# EAGLE library part ICE40HX1KVQ100 (library rpi64)
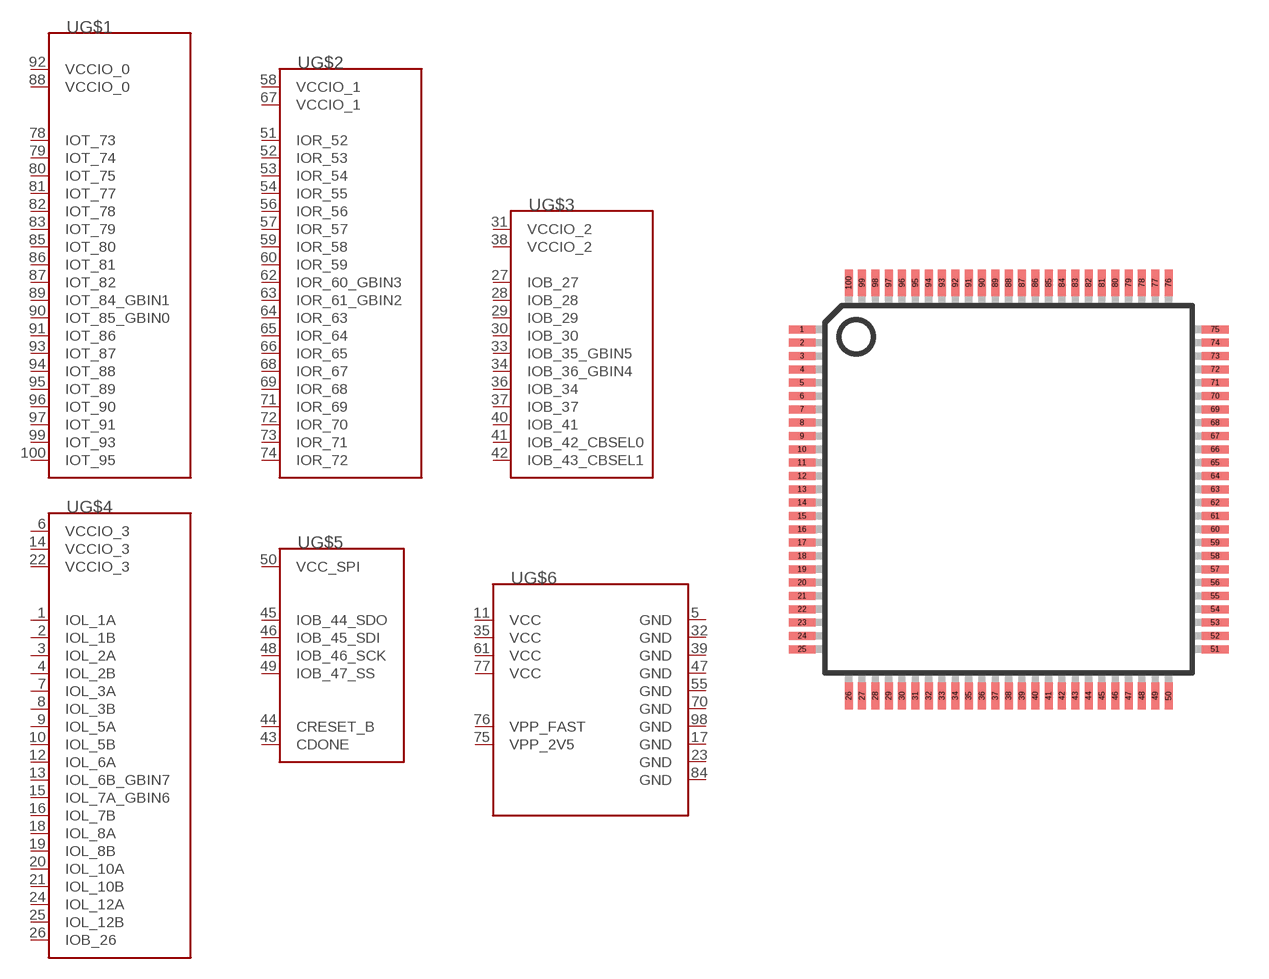
[diagram p4: symbol with the pads of VQ100; footprint VQ100]

Designator prefix -; gates G$1=ICE40HX1K_BANK0 G$2=ICE40HX1K_BANK1 G$3=ICE40HX1K_BANK2 G$4=ICE40HX1K_BANK3 G$5=ICE40HX1K_CONF G$6=ICE40HX1K_POWER

## ICE40HX1KVQ100  [VQ100]
1  G$4:IOL_1A
2  G$4:IOL_1B
3  G$4:IOL_2A
4  G$4:IOL_2B
5  G$6:GND  pwr
6  G$4:VCCIO_3  pwr
7  G$4:IOL_3A
8  G$4:IOL_3B
9  G$4:IOL_5A
10  G$4:IOL_5B
11  G$6:VCC  pwr
12  G$4:IOL_6A
13  G$4:IOL_6B_GBIN7
14  G$4:VCCIO_3  pwr
15  G$4:IOL_7A_GBIN6
16  G$4:IOL_7B
17  G$6:GND  pwr
18  G$4:IOL_8A
19  G$4:IOL_8B
20  G$4:IOL_10A
21  G$4:IOL_10B
22  G$4:VCCIO_3  pwr
23  G$6:GND  pwr
24  G$4:IOL_12A
25  G$4:IOL_12B
26  G$4:IOB_26
27  G$3:IOB_27
28  G$3:IOB_28
29  G$3:IOB_29
30  G$3:IOB_30
31  G$3:VCCIO_2  pwr
32  G$6:GND  pwr
33  G$3:IOB_35_GBIN5
34  G$3:IOB_36_GBIN4
35  G$6:VCC  pwr
36  G$3:IOB_34
37  G$3:IOB_37
38  G$3:VCCIO_2  pwr
39  G$6:GND  pwr
40  G$3:IOB_41
41  G$3:IOB_42_CBSEL0
42  G$3:IOB_43_CBSEL1
43  G$5:CDONE
44  G$5:CRESET_B
45  G$5:IOB_44_SDO
46  G$5:IOB_45_SDI
47  G$6:GND  pwr
48  G$5:IOB_46_SCK
49  G$5:IOB_47_SS
50  G$5:VCC_SPI  pwr
51  G$2:IOR_52
52  G$2:IOR_53
53  G$2:IOR_54
54  G$2:IOR_55
55  G$6:GND  pwr
56  G$2:IOR_56
57  G$2:IOR_57
58  G$2:VCCIO_1  pwr
59  G$2:IOR_58
60  G$2:IOR_59
61  G$6:VCC  pwr
62  G$2:IOR_60_GBIN3
63  G$2:IOR_61_GBIN2
64  G$2:IOR_63
65  G$2:IOR_64
66  G$2:IOR_65
67  G$2:VCCIO_1  pwr
68  G$2:IOR_67
69  G$2:IOR_68
70  G$6:GND  pwr
71  G$2:IOR_69
72  G$2:IOR_70
73  G$2:IOR_71
74  G$2:IOR_72
75  G$6:VPP_2V5  pwr
76  G$6:VPP_FAST  pwr
77  G$6:VCC  pwr
78  G$1:IOT_73
79  G$1:IOT_74
80  G$1:IOT_75
81  G$1:IOT_77
82  G$1:IOT_78
83  G$1:IOT_79
84  G$6:GND  pwr
85  G$1:IOT_80
86  G$1:IOT_81
87  G$1:IOT_82
88  G$1:VCCIO_0  pwr
89  G$1:IOT_84_GBIN1
90  G$1:IOT_85_GBIN0
91  G$1:IOT_86
92  G$1:VCCIO_0  pwr
93  G$1:IOT_87
94  G$1:IOT_88
95  G$1:IOT_89
96  G$1:IOT_90
97  G$1:IOT_91
98  G$6:GND  pwr
99  G$1:IOT_93
100  G$1:IOT_95

## Footprint VQ100 (pad centres in mm)
smd 1 x 0.3: 1 -7.75,6; 2 -7.75,5.5; 3 -7.75,5; 4 -7.75,4.5; 5 -7.75,4; 6 -7.75,3.5; 7 -7.75,3; 8 -7.75,2.5; 9 -7.75,2; 10 -7.75,1.5; 11 -7.75,1; 12 -7.75,0.5; 13 -7.75,0; 14 -7.75,-0.5; 15 -7.75,-1; 16 -7.75,-1.5; 17 -7.75,-2; 18 -7.75,-2.5; 19 -7.75,-3; 20 -7.75,-3.5; 21 -7.75,-4; 22 -7.75,-4.5; 23 -7.75,-5; 24 -7.75,-5.5; 25 -7.75,-6; 51 7.75,-6; 52 7.75,-5.5; 53 7.75,-5; 54 7.75,-4.5; 55 7.75,-4; 56 7.75,-3.5; 57 7.75,-3; 58 7.75,-2.5; 59 7.75,-2; 60 7.75,-1.5; 61 7.75,-1; 62 7.75,-0.5; 63 7.75,0; 64 7.75,0.5; 65 7.75,1; 66 7.75,1.5; 67 7.75,2; 68 7.75,2.5; 69 7.75,3; 70 7.75,3.5; 71 7.75,4; 72 7.75,4.5; 73 7.75,5; 74 7.75,5.5; 75 7.75,6
smd 0.3 x 1: 26 -6,-7.75; 27 -5.5,-7.75; 28 -5,-7.75; 29 -4.5,-7.75; 30 -4,-7.75; 31 -3.5,-7.75; 32 -3,-7.75; 33 -2.5,-7.75; 34 -2,-7.75; 35 -1.5,-7.75; 36 -1,-7.75; 37 -0.5,-7.75; 38 0,-7.75; 39 0.5,-7.75; 40 1,-7.75; 41 1.5,-7.75; 42 2,-7.75; 43 2.5,-7.75; 44 3,-7.75; 45 3.5,-7.75; 46 4,-7.75; 47 4.5,-7.75; 48 5,-7.75; 49 5.5,-7.75; 50 6,-7.75; 76 6,7.75; 77 5.5,7.75; 78 5,7.75; 79 4.5,7.75; 80 4,7.75; 81 3.5,7.75; 82 3,7.75; 83 2.5,7.75; 84 2,7.75; 85 1.5,7.75; 86 1,7.75; 87 0.5,7.75; 88 0,7.75; 89 -0.5,7.75; 90 -1,7.75; 91 -1.5,7.75; 92 -2,7.75; 93 -2.5,7.75; 94 -3,7.75; 95 -3.5,7.75; 96 -4,7.75; 97 -4.5,7.75; 98 -5,7.75; 99 -5.5,7.75; 100 -6,7.75